# EAGLE library part CON6F (library added_parts)
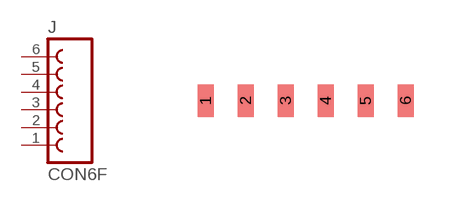
[diagram p6: symbol with the pads of PADS_6_1MM; footprint PADS_6_1MM]

Designator prefix J

## CON6F  [PADS_6_1MM]
1  1  pas
2  2  pas
3  3  pas
4  4  pas
5  5  pas
6  6  pas

## Footprint PADS_6_1MM (pad centres in mm)
smd 0.406 x 0.813: 1 -2.5,0; 2 -1.5,0; 3 -0.5,0; 4 0.5,0; 5 1.5,0; 6 2.5,0